# Altium schematic symbol library EFM LOSC.SchLib: 1 symbol
Pins are listed as number, name and electrical type; pins without a type are passive.

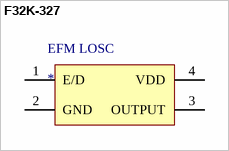
[diagram p0: symbol F32K-327]

## F32K-327
designator EFM LOSC
footprint LFOSC-32
pins: 1 E/D, 2 GND, 3 OUTPUT, 4 VDD